# Altium schematic symbol library SCH - LOGIC - TI SNx4LVC14A DIL.SchLib: 1 symbol
Pins are listed as number, name and electrical type; pins without a type are passive.

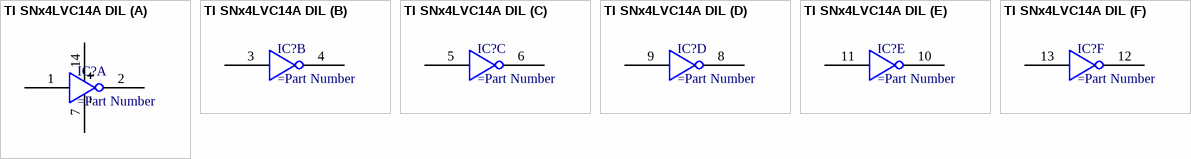
[diagram p0: symbol TI SNx4LVC14A DIL]

## TI SNx4LVC14A DIL
designator IC?
part A pins: 1 1A, 2 1Y, 7 GND, 14 VCC
part B pins: 3 2A, 4 2Y
part C pins: 5 3A, 6 3Y
part D pins: 8 4Y, 9 4A
part E pins: 10 5Y, 11 5A
part F pins: 12 6Y, 13 6A